# EAGLE library part UPRA-BUS-2X20 (library UPRA_BaseBoards)
UPRA-BUS Connector 2x20pin Standarized UPRA-BUS Connector for different UPRA panel configurations BACKPLANE - Connector for Backplane design (UPRA 2.0) PANEL_V1 - Connector for panel with sleeved board connector (UPRA 2.0) PANEL_V2 - Connector for panel with pinheader (UPRA 2.0) STACK-TROUGH - Connector for Stack design (UPRA 1.0) STACK-BASE - Base layout for Stack design (UPRA 1.0) "HANDMADE" variants are for prototype PCB designs
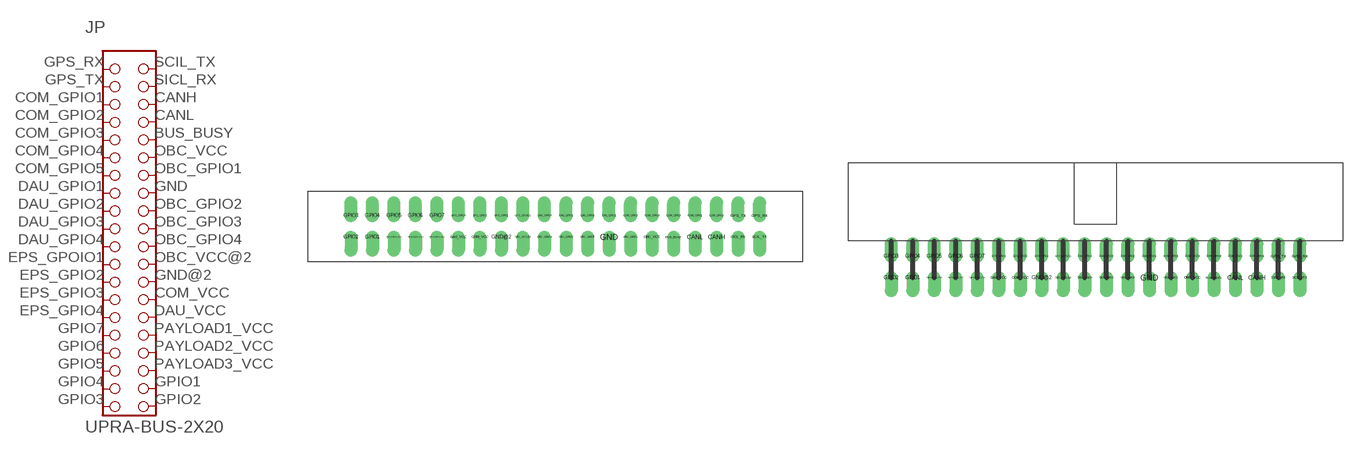
[diagram p0: symbol with the pads of BACKPLANE_2X20; footprints BACKPLANE_2X20, PANEL_HANDMADE_2X20]

Designator prefix JP

## UPRA-BUS-2X20-BACKPLANE (DESCRIPTION: Connector for Backplane design; PCB: All PCBs; UPRA_VERSION: UPRA 2.0)  [BACKPLANE_2X20]
BUS_BUSY  P$10  pas
CANH  P$6  pas
CANL  P$8  pas
COM_GPIO1  P$5  pas
COM_GPIO2  P$7  pas
COM_GPIO3  P$9  pas
COM_GPIO4  P$11  pas
COM_GPIO5  P$13  pas
COM_VCC  P$28  pas
DAU_GPIO1  P$15  pas
DAU_GPIO2  P$17  pas
DAU_GPIO3  P$19  pas
DAU_GPIO4  P$21  pas
DAU_VCC  P$30  pas
EPS_GPIO2  P$25  pas
EPS_GPIO3  P$27  pas
EPS_GPIO4  P$29  pas
EPS_GPOIO1  P$23  pas
GND  P$16  pas
GND@2  P$26  pas
GPIO1  P$38  pas
GPIO2  P$40  pas
GPIO3  P$39  pas
GPIO4  P$37  pas
GPIO5  P$35  pas
GPIO6  P$33  pas
GPIO7  P$31  pas
GPS_RX  P$1  pas
GPS_TX  P$3  pas
OBC_GPIO1  P$14  pas
OBC_GPIO2  P$18  pas
OBC_GPIO3  P$20  pas
OBC_GPIO4  P$22  pas
OBC_VCC  P$12  pas
OBC_VCC@2  P$24  pas
PAYLOAD1_VCC  P$32  pas
PAYLOAD2_VCC  P$34  pas
PAYLOAD3_VCC  P$36  pas
SCIL_TX  P$2  pas
SICL_RX  P$4  pas

## UPRA-BUS-2X20-HAND-MADE_PANEL_V1 (DESCRIPTION: Connector for panel with sleeved board connector; PCB: Prototype PCB; UPRA_VERSION: UPRA 2.0)  [PANEL_HANDMADE_2X20]
Pads as for BACKPLANE_2X20

## UPRA-BUS-2X20-STACK-TROUGH-HANDMADE (DESCRIPTION: Connector for Stack design; PCB: Prototype PCB; UPRA_VERSION: UPRA 1.0)  [STACKTHROUGH_HANDMADE_2X20]
Pads as for BACKPLANE_2X20

## UPRA-BUS-2X20-PANEL_V1 (DESCRIPTION: Connector for panel with sleeved board connector; PCB: Professionally Manufactured; UPRA_VERSION: UPRA 2.0)  [PANEL_2X20]
APRS_VCC  P$32  pas
BUS_BUSY  P$10  pas
CANH  P$6  pas
CANL  P$8  pas
COM_GPIO1  P$5  pas
COM_GPIO2  P$7  pas
COM_GPIO3  P$9  pas
COM_GPIO4  P$11  pas
COM_GPIO5  P$13  pas
COM_VCC  P$28  pas
DAU_GPIO1  P$15  pas
DAU_GPIO2  P$17  pas
DAU_GPIO3  P$19  pas
DAU_GPIO4  P$21  pas
DAU_VCC  P$30  pas
EPS_GPIO2  P$25  pas
EPS_GPIO3  P$27  pas
EPS_GPIO4  P$29  pas
EPS_GPOIO1  P$23  pas
GND  P$16  pas
GND@2  P$26  pas
GPIO1  P$38  pas
GPIO2  P$40  pas
GPIO3  P$39  pas
GPIO4  P$37  pas
GPIO5  P$35  pas
GPIO6  P$33  pas
GPIO7  P$31  pas
GPS_RX  P$1  pas
GPS_TX  P$3  pas
OBC_GPIO1  P$14  pas
OBC_GPIO2  P$18  pas
OBC_GPIO3  P$20  pas
OBC_GPIO4  P$22  pas
OBC_VCC  P$12  pas
OBC_VCC@2  P$24  pas
PAYLOAD1_VCC  P$34  pas
PAYLOAD2_VCC  P$36  pas
SCIL_TX  P$2  pas
SICL_RX  P$4  pas

## UPRA-BUS-2X20-STACK-TROUGH (DESCRIPTION: Connector for Stack design; PCB: Professionally Manufactured; UPRA_VERSION: UPRA 1.0)  [STACK-TROUGH_2X20]
Pads as for BACKPLANE_2X20

## UPRA-BUS-2X20-PANEL_V2 (DESCRIPTION: Connector for panel with pinheader; PCB: Professionally Manufactured; UPRA_VERSION: UPRA 2.0)  [PANEL_2X20_PINHEAD]
Pads as for BACKPLANE_2X20

## UPRA-BUS-2X20-HAND-MADE_PANEL_V2 (DESCRIPTION: Connector for panel with pinheader; PCB: Prototype PCB; UPRA_VERSION: UPRA 2.0)  [PANEL_2X20_PINHEAD_HANDMADE]
Pads as for BACKPLANE_2X20

## UPRA-BUS-2X20-STACK-BASE (DESCRIPTION: Base layout for Stack design; PCB: Professionally Manufactured; UPRA_VERSION: UPRA 1.0)  [UPRA_STACK_BASE]
Pads as for BACKPLANE_2X20

## UPRA-BUS-2X20-STACK-BASE-HANDMADE (DESCRIPTION: Base layout for Stack design; PCB: Prototype PCB; UPRA_VERSION: UPRA 1.0)  [UPRA_STACK_BASE_HANDMADE]
Pads as for BACKPLANE_2X20

## Footprint BACKPLANE_2X20 (pad centres in mm)
drill 1.016 offset: BUS_BUSY 13.97,-1.27; CANH 19.05,-1.27; CANL 16.51,-1.27; COM_GPIO1 19.05,1.27; COM_GPIO2 16.51,1.27; COM_GPIO3 13.97,1.27; COM_GPIO4 11.43,1.27; COM_GPIO5 8.89,1.27; COM_VCC -8.89,-1.27; DAU_GPIO1 6.35,1.27; DAU_GPIO2 3.81,1.27; DAU_GPIO3 1.27,1.27; DAU_GPIO4 -1.27,1.27; DAU_VCC -11.43,-1.27; EPS_GPIO2 -6.35,1.27; EPS_GPIO3 -8.89,1.27; EPS_GPIO4 -11.43,1.27; EPS_GPOIO1 -3.81,1.27; GND 6.35,-1.27; GND@2 -6.35,-1.27; GPIO1 -21.59,-1.27; GPIO2 -24.13,-1.27; GPIO3 -24.13,1.27; GPIO4 -21.59,1.27; GPIO5 -19.05,1.27; GPIO6 -16.51,1.27; GPIO7 -13.97,1.27; GPS_RX 24.13,1.27; GPS_TX 21.59,1.27; OBC_GPIO1 8.89,-1.27; OBC_GPIO2 3.81,-1.27; OBC_GPIO3 1.27,-1.27; OBC_GPIO4 -1.27,-1.27; OBC_VCC 11.43,-1.27; OBC_VCC@2 -3.81,-1.27; PAYLOAD1_VCC -13.97,-1.27; PAYLOAD2_VCC -16.51,-1.27; PAYLOAD3_VCC -19.05,-1.27; SCIL_TX 24.13,-1.27; SICL_RX 21.59,-1.27

## Footprint PANEL_HANDMADE_2X20 (pad centres in mm)
drill 1.016 offset: BUS_BUSY 13.97,-1.27; CANH 19.05,-1.27; CANL 16.51,-1.27; COM_GPIO1 19.05,1.27; COM_GPIO2 16.51,1.27; COM_GPIO3 13.97,1.27; COM_GPIO4 11.43,1.27; COM_GPIO5 8.89,1.27; COM_VCC -8.89,-1.27; DAU_GPIO1 6.35,1.27; DAU_GPIO2 3.81,1.27; DAU_GPIO3 1.27,1.27; DAU_GPIO4 -1.27,1.27; DAU_VCC -11.43,-1.27; EPS_GPIO2 -6.35,1.27; EPS_GPIO3 -8.89,1.27; EPS_GPIO4 -11.43,1.27; EPS_GPOIO1 -3.81,1.27; GND 6.35,-1.27; GND@2 -6.35,-1.27; GPIO1 -21.59,-1.27; GPIO2 -24.13,-1.27; GPIO3 -24.13,1.27; GPIO4 -21.59,1.27; GPIO5 -19.05,1.27; GPIO6 -16.51,1.27; GPIO7 -13.97,1.27; GPS_RX 24.13,1.27; GPS_TX 21.59,1.27; OBC_GPIO1 8.89,-1.27; OBC_GPIO2 3.81,-1.27; OBC_GPIO3 1.27,-1.27; OBC_GPIO4 -1.27,-1.27; OBC_VCC 11.43,-1.27; OBC_VCC@2 -3.81,-1.27; PAYLOAD1_VCC -13.97,-1.27; PAYLOAD2_VCC -16.51,-1.27; PAYLOAD3_VCC -19.05,-1.27; SCIL_TX 24.13,-1.27; SICL_RX 21.59,-1.27

## Footprint STACKTHROUGH_HANDMADE_2X20 (pad centres in mm)
drill 1.016 offset: BUS_BUSY 13.97,-1.27; CANH 19.05,-1.27; CANL 16.51,-1.27; COM_GPIO1 19.05,1.27; COM_GPIO2 16.51,1.27; COM_GPIO3 13.97,1.27; COM_GPIO4 11.43,1.27; COM_GPIO5 8.89,1.27; COM_VCC -8.89,-1.27; DAU_GPIO1 6.35,1.27; DAU_GPIO2 3.81,1.27; DAU_GPIO3 1.27,1.27; DAU_GPIO4 -1.27,1.27; DAU_VCC -11.43,-1.27; EPS_GPIO2 -6.35,1.27; EPS_GPIO3 -8.89,1.27; EPS_GPIO4 -11.43,1.27; EPS_GPOIO1 -3.81,1.27; GND 6.35,-1.27; GND@2 -6.35,-1.27; GPIO1 -21.59,-1.27; GPIO2 -24.13,-1.27; GPIO3 -24.13,1.27; GPIO4 -21.59,1.27; GPIO5 -19.05,1.27; GPIO6 -16.51,1.27; GPIO7 -13.97,1.27; GPS_RX 24.13,1.27; GPS_TX 21.59,1.27; OBC_GPIO1 8.89,-1.27; OBC_GPIO2 3.81,-1.27; OBC_GPIO3 1.27,-1.27; OBC_GPIO4 -1.27,-1.27; OBC_VCC 11.43,-1.27; OBC_VCC@2 -3.81,-1.27; PAYLOAD1_VCC -13.97,-1.27; PAYLOAD2_VCC -16.51,-1.27; PAYLOAD3_VCC -19.05,-1.27; SCIL_TX 24.13,-1.27; SICL_RX 21.59,-1.27

## Footprint PANEL_2X20 (pad centres in mm)
drill 1.016: APRS_VCC -13.97,-1.27; BUS_BUSY 13.97,-1.27; CANH 19.05,-1.27; CANL 16.51,-1.27; COM_GPIO1 19.05,1.27; COM_GPIO2 16.51,1.27; COM_GPIO3 13.97,1.27; COM_GPIO4 11.43,1.27; COM_GPIO5 8.89,1.27; COM_VCC -8.89,-1.27; DAU_GPIO1 6.35,1.27; DAU_GPIO2 3.81,1.27; DAU_GPIO3 1.27,1.27; DAU_GPIO4 -1.27,1.27; DAU_VCC -11.43,-1.27; EPS_GPIO2 -6.35,1.27; EPS_GPIO3 -8.89,1.27; EPS_GPIO4 -11.43,1.27; EPS_GPOIO1 -3.81,1.27; GND 6.35,-1.27; GND@2 -6.35,-1.27; GPIO1 -21.59,-1.27; GPIO2 -24.13,-1.27; GPIO3 -24.13,1.27; GPIO4 -21.59,1.27; GPIO5 -19.05,1.27; GPIO6 -16.51,1.27; GPIO7 -13.97,1.27; GPS_RX 24.13,1.27; GPS_TX 21.59,1.27; OBC_GPIO1 8.89,-1.27; OBC_GPIO2 3.81,-1.27; OBC_GPIO3 1.27,-1.27; OBC_GPIO4 -1.27,-1.27; OBC_VCC 11.43,-1.27; OBC_VCC@2 -3.81,-1.27; PAYLOAD1_VCC -16.51,-1.27; PAYLOAD2_VCC -19.05,-1.27; SCIL_TX 24.13,-1.27; SICL_RX 21.59,-1.27

## Footprint STACK-TROUGH_2X20 (pad centres in mm)
drill 1.016: BUS_BUSY 13.97,-1.27; CANH 19.05,-1.27; CANL 16.51,-1.27; COM_GPIO1 19.05,1.27; COM_GPIO2 16.51,1.27; COM_GPIO3 13.97,1.27; COM_GPIO4 11.43,1.27; COM_GPIO5 8.89,1.27; COM_VCC -8.89,-1.27; DAU_GPIO1 6.35,1.27; DAU_GPIO2 3.81,1.27; DAU_GPIO3 1.27,1.27; DAU_GPIO4 -1.27,1.27; DAU_VCC -11.43,-1.27; EPS_GPIO2 -6.35,1.27; EPS_GPIO3 -8.89,1.27; EPS_GPIO4 -11.43,1.27; EPS_GPOIO1 -3.81,1.27; GND 6.35,-1.27; GND@2 -6.35,-1.27; GPIO1 -21.59,-1.27; GPIO2 -24.13,-1.27; GPIO3 -24.13,1.27; GPIO4 -21.59,1.27; GPIO5 -19.05,1.27; GPIO6 -16.51,1.27; GPIO7 -13.97,1.27; GPS_RX 24.13,1.27; GPS_TX 21.59,1.27; OBC_GPIO1 8.89,-1.27; OBC_GPIO2 3.81,-1.27; OBC_GPIO3 1.27,-1.27; OBC_GPIO4 -1.27,-1.27; OBC_VCC 11.43,-1.27; OBC_VCC@2 -3.81,-1.27; PAYLOAD1_VCC -13.97,-1.27; PAYLOAD2_VCC -16.51,-1.27; PAYLOAD3_VCC -19.05,-1.27; SCIL_TX 24.13,-1.27; SICL_RX 21.59,-1.27

## Footprint PANEL_2X20_PINHEAD (pad centres in mm)
drill 1.016: BUS_BUSY 13.97,-1.27; CANH 19.05,-1.27; CANL 16.51,-1.27; COM_GPIO1 19.05,1.27; COM_GPIO2 16.51,1.27; COM_GPIO3 13.97,1.27; COM_GPIO4 11.43,1.27; COM_GPIO5 8.89,1.27; COM_VCC -8.89,-1.27; DAU_GPIO1 6.35,1.27; DAU_GPIO2 3.81,1.27; DAU_GPIO3 1.27,1.27; DAU_GPIO4 -1.27,1.27; DAU_VCC -11.43,-1.27; EPS_GPIO2 -6.35,1.27; EPS_GPIO3 -8.89,1.27; EPS_GPIO4 -11.43,1.27; EPS_GPOIO1 -3.81,1.27; GND 6.35,-1.27; GND@2 -6.35,-1.27; GPIO1 -21.59,-1.27; GPIO2 -24.13,-1.27; GPIO3 -24.13,1.27; GPIO4 -21.59,1.27; GPIO5 -19.05,1.27; GPIO6 -16.51,1.27; GPIO7 -13.97,1.27; GPS_RX 24.13,1.27; GPS_TX 21.59,1.27; OBC_GPIO1 8.89,-1.27; OBC_GPIO2 3.81,-1.27; OBC_GPIO3 1.27,-1.27; OBC_GPIO4 -1.27,-1.27; OBC_VCC 11.43,-1.27; OBC_VCC@2 -3.81,-1.27; PAYLOAD1_VCC -13.97,-1.27; PAYLOAD2_VCC -16.51,-1.27; PAYLOAD3_VCC -19.05,-1.27; SCIL_TX 24.13,-1.27; SICL_RX 21.59,-1.27

## Footprint PANEL_2X20_PINHEAD_HANDMADE (pad centres in mm)
drill 1.016 offset: BUS_BUSY 13.97,-1.27; CANH 19.05,-1.27; CANL 16.51,-1.27; COM_GPIO1 19.05,1.27; COM_GPIO2 16.51,1.27; COM_GPIO3 13.97,1.27; COM_GPIO4 11.43,1.27; COM_GPIO5 8.89,1.27; COM_VCC -8.89,-1.27; DAU_GPIO1 6.35,1.27; DAU_GPIO2 3.81,1.27; DAU_GPIO3 1.27,1.27; DAU_GPIO4 -1.27,1.27; DAU_VCC -11.43,-1.27; EPS_GPIO2 -6.35,1.27; EPS_GPIO3 -8.89,1.27; EPS_GPIO4 -11.43,1.27; EPS_GPOIO1 -3.81,1.27; GND 6.35,-1.27; GND@2 -6.35,-1.27; GPIO1 -21.59,-1.27; GPIO2 -24.13,-1.27; GPIO3 -24.13,1.27; GPIO4 -21.59,1.27; GPIO5 -19.05,1.27; GPIO6 -16.51,1.27; GPIO7 -13.97,1.27; GPS_RX 24.13,1.27; GPS_TX 21.59,1.27; OBC_GPIO1 8.89,-1.27; OBC_GPIO2 3.81,-1.27; OBC_GPIO3 1.27,-1.27; OBC_GPIO4 -1.27,-1.27; OBC_VCC 11.43,-1.27; OBC_VCC@2 -3.81,-1.27; PAYLOAD1_VCC -13.97,-1.27; PAYLOAD2_VCC -16.51,-1.27; PAYLOAD3_VCC -19.05,-1.27; SCIL_TX 24.13,-1.27; SICL_RX 21.59,-1.27

## Footprint UPRA_STACK_BASE (pad centres in mm)
drill 1.016: BUS_BUSY 41.841,65.499; CANH 46.921,65.499; CANL 44.381,65.499; COM_GPIO1 46.921,68.039; COM_GPIO2 44.381,68.039; COM_GPIO3 41.841,68.039; COM_GPIO4 39.301,68.039; COM_GPIO5 36.761,68.039; COM_VCC 18.981,65.499; DAU_GPIO1 34.221,68.039; DAU_GPIO2 31.681,68.039; DAU_GPIO3 29.141,68.039; DAU_GPIO4 26.601,68.039; DAU_VCC 16.441,65.499; EPS_GPIO2 21.521,68.039; EPS_GPIO3 18.981,68.039; EPS_GPIO4 16.441,68.039; EPS_GPOIO1 24.061,68.039; GND 34.221,65.499; GND@2 21.521,65.499; GPIO1 6.281,65.499; GPIO2 3.741,65.499; GPIO3 3.741,68.039; GPIO4 6.281,68.039; GPIO5 8.821,68.039; GPIO6 11.361,68.039; GPIO7 13.901,68.039; GPS_RX 52.001,68.039; GPS_TX 49.461,68.039; OBC_GPIO1 36.761,65.499; OBC_GPIO2 31.681,65.499; OBC_GPIO3 29.141,65.499; OBC_GPIO4 26.601,65.499; OBC_VCC 39.301,65.499; OBC_VCC@2 24.061,65.499; PAYLOAD1_VCC 13.901,65.499; PAYLOAD2_VCC 11.361,65.499; PAYLOAD3_VCC 8.821,65.499; SCIL_TX 52.001,65.499; SICL_RX 49.461,65.499
hole 3.6 at 6,6
hole 3.6 at 64,6
hole 3.6 at 64,67

## Footprint UPRA_STACK_BASE_HANDMADE (pad centres in mm)
drill 1.016 offset: BUS_BUSY 41.841,65.499; CANH 46.921,65.499; CANL 44.381,65.499; COM_GPIO1 46.921,68.039; COM_GPIO2 44.381,68.039; COM_GPIO3 41.841,68.039; COM_GPIO4 39.301,68.039; COM_GPIO5 36.761,68.039; COM_VCC 18.981,65.499; DAU_GPIO1 34.221,68.039; DAU_GPIO2 31.681,68.039; DAU_GPIO3 29.141,68.039; DAU_GPIO4 26.601,68.039; DAU_VCC 16.441,65.499; EPS_GPIO2 21.521,68.039; EPS_GPIO3 18.981,68.039; EPS_GPIO4 16.441,68.039; EPS_GPOIO1 24.061,68.039; GND 34.221,65.499; GND@2 21.521,65.499; GPIO1 6.281,65.499; GPIO2 3.741,65.499; GPIO3 3.741,68.039; GPIO4 6.281,68.039; GPIO5 8.821,68.039; GPIO6 11.361,68.039; GPIO7 13.901,68.039; GPS_RX 52.001,68.039; GPS_TX 49.461,68.039; OBC_GPIO1 36.761,65.499; OBC_GPIO2 31.681,65.499; OBC_GPIO3 29.141,65.499; OBC_GPIO4 26.601,65.499; OBC_VCC 39.301,65.499; OBC_VCC@2 24.061,65.499; PAYLOAD1_VCC 13.901,65.499; PAYLOAD2_VCC 11.361,65.499; PAYLOAD3_VCC 8.821,65.499; SCIL_TX 52.001,65.499; SICL_RX 49.461,65.499
hole 3.6 at 6,6
hole 3.6 at 64,6
hole 3.6 at 64,67